# Altium integrated library ESP8266.IntLib: 1 symbol
Pins are listed as number, name and electrical type; pins without a type are passive.

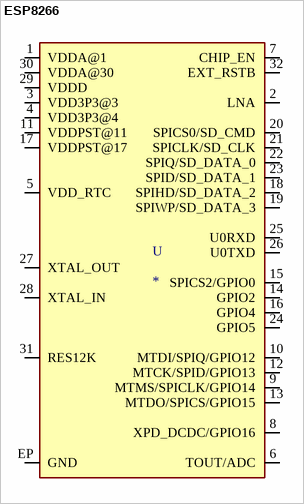
[diagram p0: symbol ESP8266]

## ESP8266
designator U
IC RF TxRx + MCU WiFi 802.11b/g/n 2.4GHz 32-VFQFN Exposed Pad; MP: ESP8266; MF: Espressif Systems; Availability: Unavailable; SnapEDA_Link: https://www.snapeda.com/parts/ESP8266/Espressif%20Systems/view-part/106411/?ref=snap; Package: VFQFN-32 Espressif Systems; Value: *; Price: None
footprint QFN32-5X5MM
pins: 1 VDDA@1 (io), 2 LNA (io), 3 VDD3P3@3 (io), 4 VDD3P3@4 (io), 5 VDD_RTC (io), 6 TOUT/ADC (io), 7 CHIP_EN (io), 8 XPD_DCDC/GPIO16 (io), 9 MTMS/SPICLK/GPIO14 (io), 10 MTDI/SPIQ/GPIO12 (io), 11 VDDPST@11 (io), 12 MTCK/SPID/GPIO13 (io), 13 MTDO/SPICS/GPIO15 (io), 14 GPIO2 (io), 15 SPICS2/GPIO0 (io), 16 GPIO4 (io), 17 VDDPST@17 (io), 18 SPIHD/SD_DATA_2 (io), 19 SPIWP/SD_DATA_3 (io), 20 SPICS0/SD_CMD (io), 21 SPICLK/SD_CLK (io), 22 SPIQ/SD_DATA_0 (io), 23 SPID/SD_DATA_1 (io), 24 GPIO5 (io), 25 U0RXD (io), 26 U0TXD (io), 27 XTAL_OUT (io), 28 XTAL_IN (io), 29 VDDD (io), 30 VDDA@30 (io), 31 RES12K (io), 32 EXT_RSTB (io), EP GND (io)